# Altium schematic symbol library GenRF_R00.SchLib: 6 symbols
Pins are listed as number, name and electrical type; pins without a type are passive.

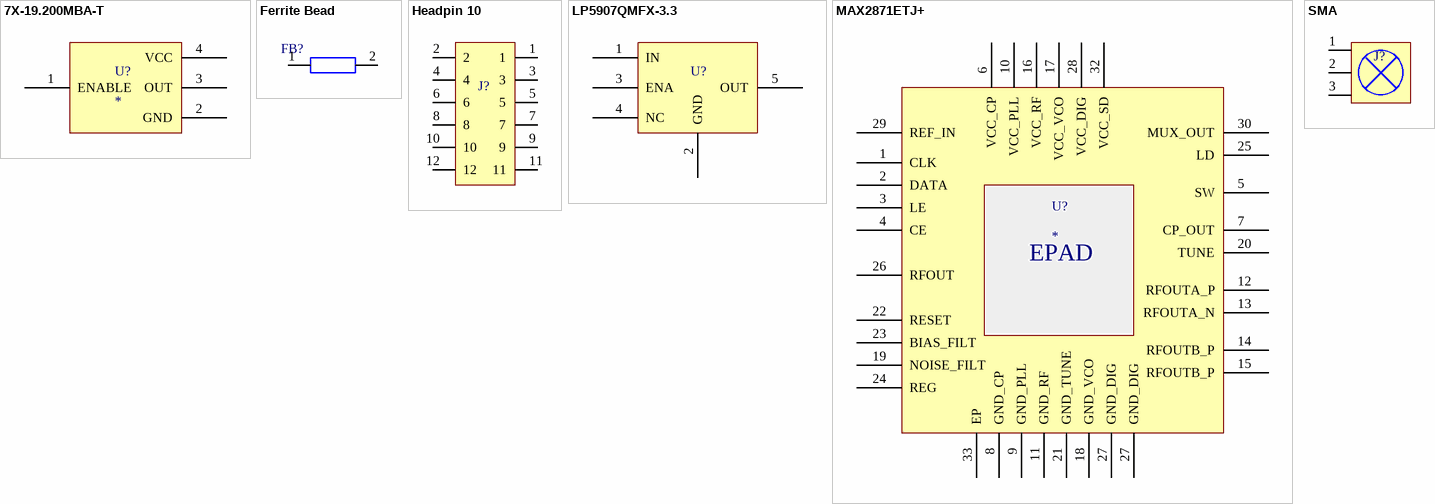
[diagram p0: symbols 7X-19.200MBA-T to SMA]

## 7X-19.200MBA-T
designator U?
XTAL OSC XO 19.2000MHZ CMOS SMD
pins: 1 ENABLE, 2 GND, 3 OUT, 4 VCC

## Ferrite Bead
designator FB?  (value not drawn)
pins: 1, 2

## Headpin 10
designator J?, comment Tira de pines de 12  (value not drawn)
pins: 1, 2, 3, 4, 5, 6, 7, 8, 9, 10, 11, 12

## LP5907QMFX-3.3
designator U?  (value not drawn)
IC REG LINEAR 3.3V 250MA SOT23-5
pins: 1 IN, 2 GND, 3 ENA, 4 NC, 5 OUT

## MAX2871ETJ+
designator U?
pins: 1 CLK, 2 DATA, 3 LE, 4 CE, 5 SW, 6 VCC_CP, 7 CP_OUT, 8 GND_CP, 9 GND_PLL, 10 VCC_PLL, 11 GND_RF, 12 RFOUTA_P, 13 RFOUTA_N, 14 RFOUTB_P, 15 RFOUTB_P, 16 VCC_RF, 17 VCC_VCO, 18 GND_VCO, 19 NOISE_FILT, 20 TUNE, 21 GND_TUNE, 22 RESET, 23 BIAS_FILT, 24 REG, 25 LD, 26 RFOUT, 27 GND_DIG, 27 GND_DIG, 28 VCC_DIG, 29 REF_IN, 30 MUX_OUT, 32 VCC_SD, 33 EP
text: EPAD

## SMA
designator J?, comment Conector SMA  (value not drawn)
pins: 1, 2, 3